# Altium footprint library 3225.PcbLib: 2 footprints
Each footprint in its own frame and in the unit in brackets; x right, y up, seen from the top. Pads: shape width x height; smd on the part's side, far side on the other; paste and mask are expansions set on the pad; w line width, h text height; cw(c..) or ccw(c..) is an arc to the next point about the centre after c.
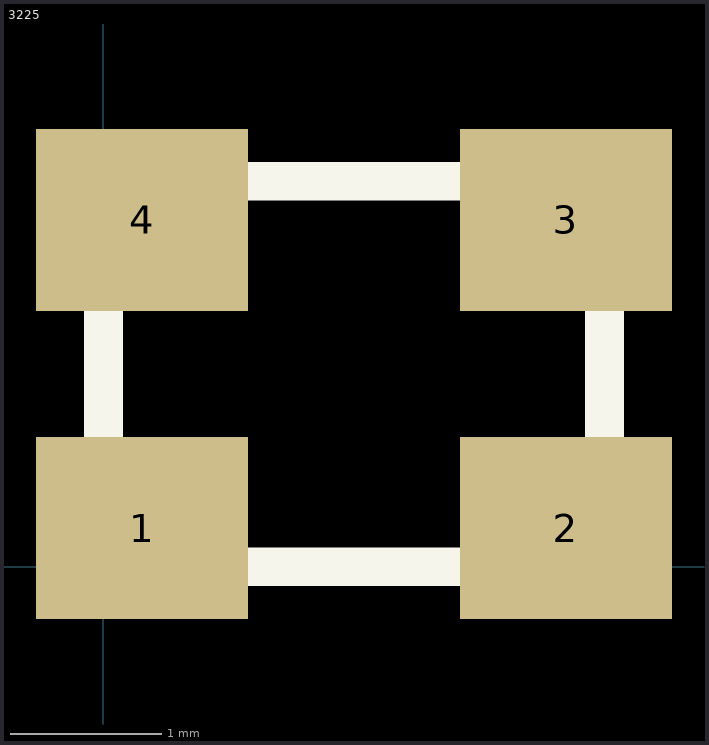
[diagram p0: the footprints below, top view; thin cyan lines are the x and y axes]

## 3225 [mm]
pads (4):
  rect 1.4x1.2 smd: 1(0.254,0.254) 2(3.048,0.254) 3(3.048,2.286) 4(0.254,2.286)
Top Overlay:
  lines w0.254: 0,0 0,2.54 3.302,2.54 3.302,0 0,0

## PCBComponent_1 [mm]